# EAGLE library part MAX3420E (library active)
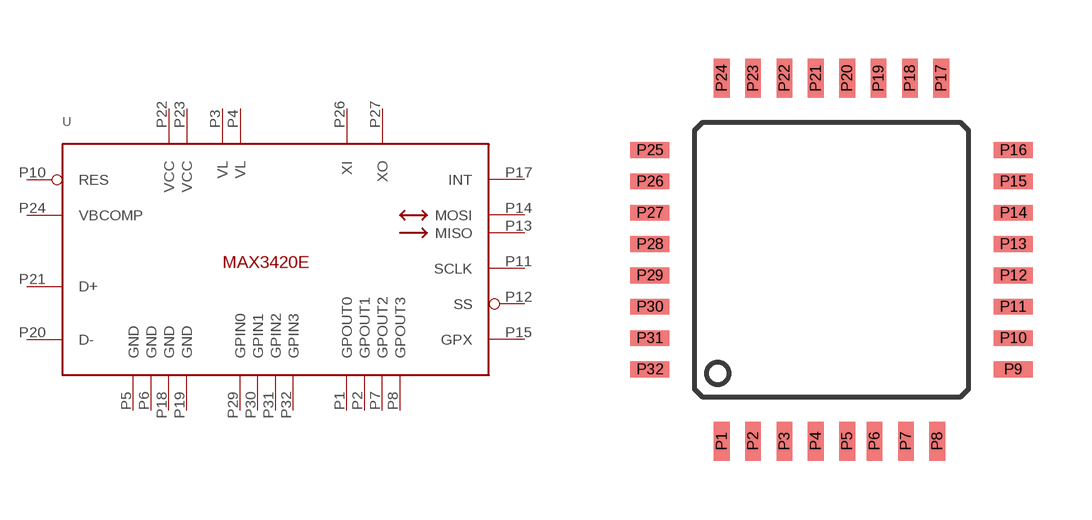
[diagram p1: symbol with the pads of LQFP32; footprint LQFP32]

Designator prefix U

## MAX3420ELQFP32  [LQFP32]
P1  GPOUT0  out
P2  GPOUT1  out
P3  VL  pwr
P4  VL  pwr
P5  GND  pwr
P6  GND  pwr
P7  GPOUT2  out
P8  GPOUT3  out
P10  RES  in
P11  SCLK  in
P12  SS  in
P13  MISO  out
P14  MOSI
P15  GPX  out
P17  INT  out
P18  GND  pwr
P19  GND  pwr
P20  D-
P21  D+
P22  VCC  pwr
P23  VCC  pwr
P24  VBCOMP  in
P26  XI  pas
P27  XO  pas
P29  GPIN0  in
P30  GPIN1  in
P31  GPIN2  in
P32  GPIN3  in

## Footprint LQFP32 (pad centres in mm)
smd 0.4 x 1: P1 -2.8,-4.635; P2 -2,-4.635; P3 -1.2,-4.635; P4 -0.4,-4.635; P5 0.4,-4.635; P6 1.1,-4.635; P7 1.9,-4.635; P8 2.7,-4.635; P17 2.8,4.635; P18 2,4.635; P19 1.2,4.635; P20 0.4,4.635; P21 -0.4,4.635; P22 -1.2,4.635; P23 -2,4.635; P24 -2.8,4.635
smd 1 x 0.4: P9 4.635,-2.8; P10 4.635,-2; P11 4.635,-1.2; P12 4.635,-0.4; P13 4.635,0.4; P14 4.635,1.2; P15 4.635,2; P16 4.635,2.8; P25 -4.635,2.8; P26 -4.635,2; P27 -4.635,1.2; P28 -4.635,0.4; P29 -4.635,-0.4; P30 -4.635,-1.2; P31 -4.635,-2; P32 -4.635,-2.8